# EAGLE library part IC_SN74HC595 (library TD-MySensors)
SN74Hc595 8 bit ouput shift register Ground: GND, OE VCC: VCC clear all: SRCLR to GND, SRCLR to VCC to use
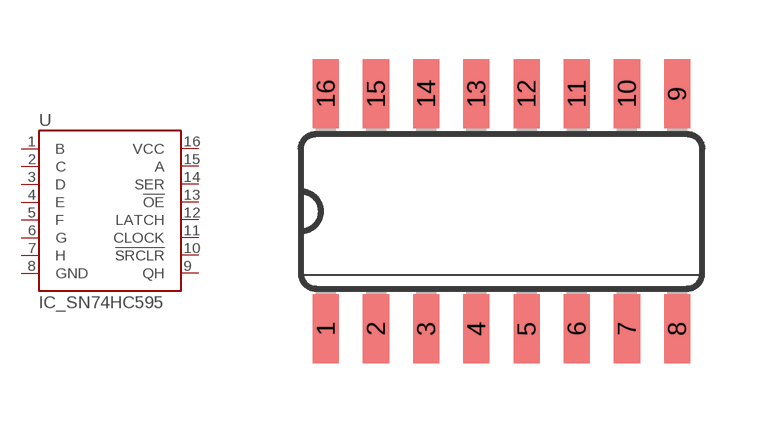
[diagram p10: symbol with the pads of SO16; footprint SO16]

Designator prefix -

## IC_SN74HC595  [SO16]
1  B
2  C
3  D
4  E
5  F
6  G
7  H
8  GND  pwr
9  QH
10  !SRCLR
11  CLOCK
12  LATCH
13  !OE
14  SER
15  A
16  VCC  pwr

## Footprint SO16 (pad centres in mm)
Small Outline package 150 mil
smd 0.66 x 1.75: 1 -4.445,-2.973; 2 -3.175,-2.973; 3 -1.905,-2.973; 4 -0.635,-2.973; 5 0.635,-2.973; 6 1.905,-2.973; 7 3.175,-2.973; 8 4.445,-2.973; 9 4.445,2.973; 10 3.175,2.973; 11 1.905,2.973; 12 0.635,2.973; 13 -0.635,2.973; 14 -1.905,2.973; 15 -3.175,2.973; 16 -4.445,2.973